# Altium footprint library gfl.PcbLib: 4 footprints
Each footprint in its own frame and in the unit in brackets; x right, y up, seen from the top. Pads: shape width x height; smd on the part's side, far side on the other; paste and mask are expansions set on the pad; w line width, h text height; cw(c..) or ccw(c..) is an arc to the next point about the centre after c.
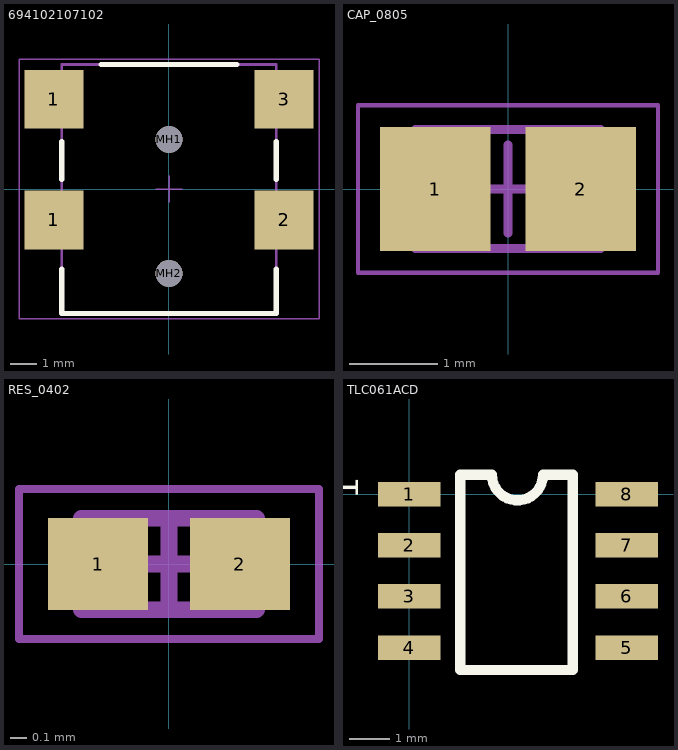
[diagram p0: the footprints below, top view; thin cyan lines are the x and y axes]

## 694102107102 [mm] "DC Power Jack Right Angled Low Profile SMT ?3.9 with 4 soldering pads & pegs"
height 5.3
pads (6):
  rect 2.2x2.2 smd: 1(-4.3,-1.15) 1(-4.3,3.35) 2(4.3,-1.15) 3(4.3,3.35)
  round 1 hole 1 unplated: MH1(0,1.85) MH2(0,-3.15)
Top Overlay:
  lines w0.2: -4,-2.999 -4,-4.65 4,-4.65 4,-2.999 ; -4,0.368 -4,1.765 ; -2.54,4.65 2.54,4.65 ; 4,0.368 4,1.765
Top Courtyard:
  lines w0.05: -0.5,0 0.5,0 ; 0,-0.5 0,0.5 ; -5.6,-4.85 5.6,-4.85 5.6,4.85 -5.6,4.85 -5.6,-4.85
Top 3D Body:
  lines w0.1: -4,-1.95 -4.9,-1.95 -4.9,-0.35 -4,-0.35 ; -4,2.55 -4.9,2.55 -4.9,4.15 -4,4.15 ; 4,-1.95 4.9,-1.95 4.9,-0.35 4,-0.35 ; 4,2.55 4.9,2.55 4.9,4.15 4,4.15 ; -4,-4.65 -4,4.65 4,4.65 4,-4.65 -4,-4.65
Top Designator:
  text ".Designator" at -7.498,-0.5 h1.5
Top Component Outline:
  lines w0.1: -4,-1.95 -4.9,-1.95 -4.9,-0.35 -4,-0.35 ; -4,2.55 -4.9,2.55 -4.9,4.15 -4,4.15 ; 4,-1.95 4.9,-1.95 4.9,-0.35 4,-0.35 ; 4,2.55 4.9,2.55 4.9,4.15 4,4.15 ; -4,-4.65 4,-4.65 4,4.65 -4,4.65 -4,-4.65
3D body "694102107102.stp": height 5.32, standoff -0.78, extent -4.9,-4.65 4.9,4.65

## CAP_0805 [mm] "Chip Capacitor, 2-Leads, Body 2.00x1.25mm, IPC Medium Density"
height 1.35
pads (2):
  rect 1.25x1.4 smd: 1(-0.825,0) 2(0.825,0)
Mechanical 13:
  lines w0.1: -1.05,-0.675 1.05,-0.675 1.05,0.675 -1.05,0.675 -1.05,-0.675
Mechanical 15:
  lines w0.05: -1.7,-0.95 1.7,-0.95 1.7,0.95 -1.7,0.95 -1.7,-0.95
  lines w0.1: -0.5,0 0.5,0 ; 0,-0.5 0,0.5
3D body "CAP_0805.step": height 1.35, standoff 0, extent -1.05,-0.675 1.05,0.675

## RES_0402 [mm] "Chip Resistor, 2-Leads, Body 1.00x0.50mm, IPC Medium Density"
height 0.4
pads (2):
  rect 0.6x0.55 smd: 1(-0.425,0) 2(0.425,0)
Mechanical 13:
  lines w0.1: -0.525,-0.275 0.525,-0.275 0.525,0.275 -0.525,0.275 -0.525,-0.275
Mechanical 15:
  lines w0.05: -0.9,-0.45 0.9,-0.45 0.9,0.45 -0.9,0.45 -0.9,-0.45
  lines w0.1: -0.275,0 0.275,0 ; 0,-0.275 0,0.275
3D body "RES_0402.step": height 0.4, standoff 0, extent -0.525,-0.275 0.525,0.275

## TLC061ACD [mil]
pads (8):
  rect 61x24 smd: 1(0,0) 2(0,-50) 3(0,-100) 4(0,-150) 5(213,-150) 6(213,-100) 7(213,-50) 8(213,0)
Top Overlay:
  lines w10: 80,19 50,19 50,-172 160,-172 160,19 133,19 ; 81,19 ccw(c106,19) 131,19
  text "1" at -50,-5 h25
3D body "SOIC8.stp": height 60.04, standoff -0.11, extent -13,-172.91 223,20